# Altium footprint library SATA-Modular-Backplane.PcbLib: 1 footprints
Each footprint in its own frame and in the unit in brackets; x right, y up, seen from the top. Pads: shape width x height; smd on the part's side, far side on the other; paste and mask are expansions set on the pad; w line width, h text height; cw(c..) or ccw(c..) is an arc to the next point about the centre after c.
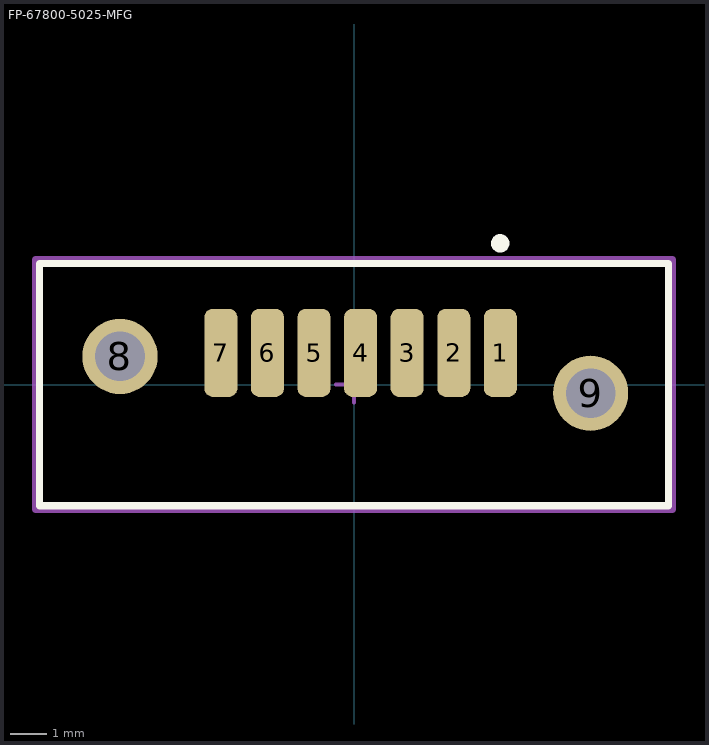
[diagram p0: the footprint, top view; thin cyan lines are the x and y axes]

## FP-67800-5025-MFG [mm]
pads (9):
  rrect50% 0.9x2.4 smd paste+0 mask+0: 1(3.99,0.865) 2(2.72,0.865) 3(1.45,0.865) 4(0.18,0.865) 5(-1.09,0.865) 6(-2.36,0.865) 7(-3.63,0.865)
  round 2.05 hole 1.35 paste-1000 mask+0: 8(-6.38,0.765) 9(6.45,-0.235)
Top Overlay:
  circle w0.25: c3.985,3.85 r0.125
  lines w0.2: -8.575,-3.3 -8.575,3.3 8.575,3.3 8.575,-3.3 -8.575,-3.3
Top Assembly:
  lines w0.2: -8.675,-3.4 -8.675,3.4 8.675,3.4 8.675,-3.4 -8.675,-3.4
  text ".Designator" at 0.87,0.84 h1
Top 3D Body:
  lines w0.2: -8.575,-3.3 -8.575,3.3 8.575,3.3 8.575,-3.3 -8.575,-3.3
Top Courtyard:
  lines w0.2: -8.675,-3.4 -8.675,3.4 8.675,3.4 8.675,-3.4 -8.675,-3.4
Top Component Center:
  lines w0.1: -0.5,0 0.5,0 ; 0,-0.5 0,0.5
3D body "Conn_Molex_67800-5025_eec.STEP": height 0.25, standoff 0, extent -8.675,-3.4 8.675,3.4